# EAGLE library part 1X09 (library pimoroni-connectors)
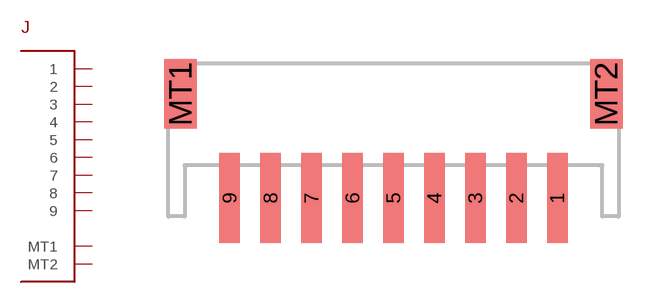
[diagram p25: symbol with the pads of JST-PH-9; footprint JST-PH-9]

Designator prefix J

## 1X09  [JST-PH-9]
1  1
2  2
3  3
4  4
5  5
6  6
7  7
8  8
9  9
MT1  MT1
MT2  MT2

## Footprint JST-PH-9 (pad centres in mm)
2-Pin JST PH Series Right-Angle Connector (+/- for batteries)
smd 1 x 4.4: 1 8,-3.6; 2 6,-3.6; 3 4,-3.6; 4 2,-3.6; 5 0,-3.6; 6 -2,-3.6; 7 -4,-3.6; 8 -6,-3.6; 9 -8,-3.6
smd 1.6 x 3.4: MT1 -10.4,1.5; MT2 10.4,1.5